# Altium integrated library TI_Logic_Gate.IntLib: 2017 symbols (part 20 of 56)
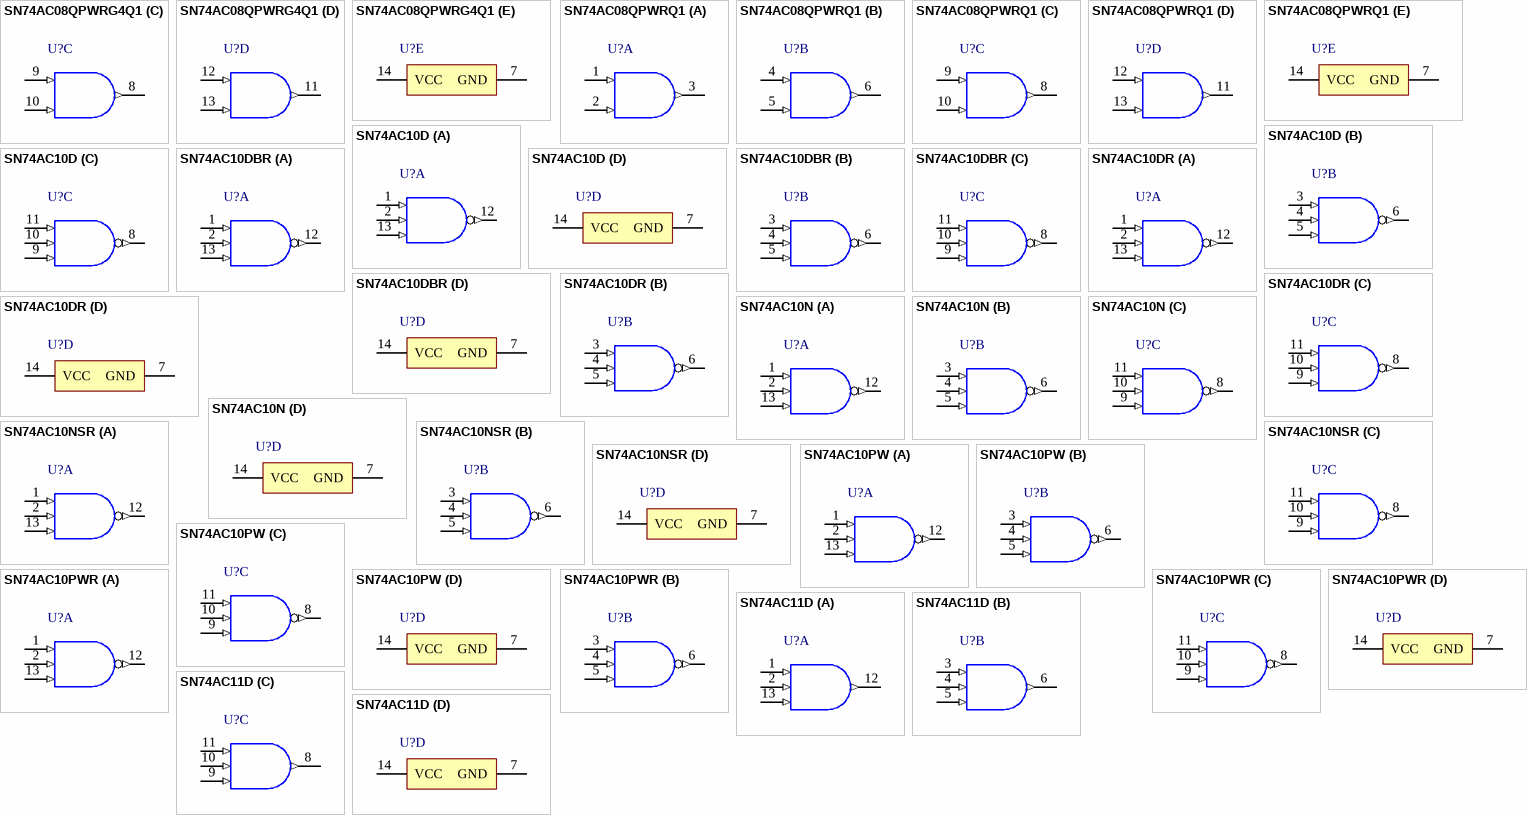
[diagram p244: symbols SN74AC08QPWRG4Q1 to SN74AC11D]

## SN74AC08QPWRQ1
designator U?
Automotive Catalog Quadruple 2-Input Positive-AND Gates, PW0014A, LARGE T&R; Generic Part Number: SN74AC08-Q1; Manufacturer: Texas Instruments; PartNumber: SN74AC08QPWRQ1; VCC(Min)(V): 2; VCC(Max)(V): 6; Output Type: CMOS; ICC @ Nom Voltage(Max)(mA): 0.02; Bits(#): 4; F @ Nom Voltage(Max)(Mhz): 100; Technology Family: AC; Voltage(Nom)(V): 3.3,5; Schmitt Trigger: No; Output Drive (IOL/IOH)(Max)(mA): -24/24; tpd @ Nom Voltage(Max)(ns): 10,8.5; DatasheetVersion: SCAS789A; PackageReference: PW0014A; Supplier 1: Mouser; Supplier Part Number 1: 595-SN74AC08QPWRQ1; Supplier 2: Digi-Key; Supplier Part Number 2: 296-38214-2-ND; Supplier 3: Digi-Key; Supplier Part Number 3: 296-38214-1-ND; Supplier 4: Digi-Key; Supplier Part Number 4: 296-38214-6-ND; Input Type: CMOS; Operating Temperature Range(C): -40 to 125; Rating: Automotive; ComponentLink1Description: Manufacturer URL; ComponentLink1URL: http://www.ti.com/; ComponentLink2Description: Datasheet; ComponentLink2URL: http://www.ti.com/lit/ds/symlink/sn74ac08-q1.pdf
footprint PW0014A_N (SOP, 14-Leads, Body 5.1x4.5mm, Pitch 0.65mm, IPC Medium Density)
footprint PW0014A_M (SOP, 14-Leads, Body 5.1x4.5mm, Pitch 0.65mm, IPC Low Density)
footprint PW0014A_L (SOP, 14-Leads, Body 5.1x4.5mm, Pitch 0.65mm, IPC High Density)
part A pins: 1 1A (in), 2 1B (in), 3 1Y (out)
part B pins: 4 2A (in), 5 2B (in), 6 2Y (out)
part C pins: 8 3Y (out), 9 3A (in), 10 3B (in)
part D pins: 11 4Y (out), 12 4A (in), 13 4B (in)
part E pins: 7 GND (power), 14 VCC (power)

## SN74AC10D
designator U?
Triple 3-Input Positive-NAND Gates, D0014A, TUBE; Generic Part Number: SN74AC10; Manufacturer: Texas Instruments; PartNumber: SN74AC10D; VCC(Min)(V): 2; VCC(Max)(V): 6; Output Type: CMOS; ICC @ Nom Voltage(Max)(mA): 0.02; Bits(#): 3; F @ Nom Voltage(Max)(Mhz): 100; Rating: Catalog; Technology Family: AC; Voltage(Nom)(V): 3.3,5; Schmitt Trigger: No; Output Drive (IOL/IOH)(Max)(mA): 24/-24; tpd @ Nom Voltage(Max)(ns): 10.5,8; DatasheetVersion: SCAS529D; PackageReference: D0014A; Supplier 1: Mouser; Supplier Part Number 1: 595-SN74AC10D; Supplier 2: Digi-Key; Supplier Part Number 2: 296-4294-5-ND; Input Type: CMOS; Operating Temperature Range(C): -40 to 85; Code_JEDEC: MS-012; ComponentLink1Description: Manufacturer URL; ComponentLink1URL: http://www.ti.com/; ComponentLink2Description: Datasheet; ComponentLink2URL: http://www.ti.com/lit/ds/symlink/sn74ac10.pdf; ComponentLink3Description: Package Specification; ComponentLink3URL: http://www.ti.com/lit/ml/mpds177g/mpds177g.pdf
footprint D0014A_N (SOIC, 14-Leads, Body 8.75x4mm, Pitch 1.27mm, IPC Medium Density)
footprint D0014A_M (SOIC, 14-Leads, Body 8.75x4mm, Pitch 1.27mm, IPC Low Density)
footprint D0014A_L (SOIC, 14-Leads, Body 8.75x4mm, Pitch 1.27mm, IPC High Density)
part A pins: 1 1A (in), 2 1B (in), 12 1Y (out), 13 1C (in)
part B pins: 3 2A (in), 4 2B (in), 5 2C (in), 6 2Y (out)
part C pins: 8 3Y (out), 9 3C (in), 10 3B (in), 11 3A (in)
part D pins: 7 GND (power), 14 VCC (power)

## SN74AC10DBR
designator U?
Triple 3-Input Positive-NAND Gates, DB0014A, LARGE T&R; Generic Part Number: SN74AC10; Manufacturer: Texas Instruments; PartNumber: SN74AC10DBR; VCC(Min)(V): 2; VCC(Max)(V): 6; Output Type: CMOS; ICC @ Nom Voltage(Max)(mA): 0.02; Bits(#): 3; F @ Nom Voltage(Max)(Mhz): 100; Rating: Catalog; Technology Family: AC; Voltage(Nom)(V): 3.3,5; Schmitt Trigger: No; Output Drive (IOL/IOH)(Max)(mA): 24/-24; tpd @ Nom Voltage(Max)(ns): 10.5,8; DatasheetVersion: SCAS529D; PackageReference: DB0014A; Supplier 1: Mouser; Supplier Part Number 1: 595-SN74AC10DBR; Supplier 2: Digi-Key; Supplier Part Number 2: 296-4293-2-ND; Supplier 3: Digi-Key; Supplier Part Number 3: 296-4293-1-ND; Supplier 4: Digi-Key; Supplier Part Number 4: 296-4293-6-ND; Input Type: CMOS; Operating Temperature Range(C): -40 to 85; Code_JEDEC: MO-150; ComponentLink1Description: Manufacturer URL; ComponentLink1URL: http://www.ti.com/; ComponentLink2Description: Datasheet; ComponentLink2URL: http://www.ti.com/lit/ds/symlink/sn74ac10.pdf; ComponentLink3Description: Package Specification; ComponentLink3URL: http://www.ti.com/lit/ml/msso002e/msso002e.pdf
footprint DB0014A_N (SOP, 14-Leads, Body 5.6x6.5mm, Pitch 0.65mm, IPC Medium Density)
footprint DB0014A_M (SOP, 14-Leads, Body 5.6x6.5mm, Pitch 0.65mm, IPC Low Density)
footprint DB0014A_L (SOP, 14-Leads, Body 5.6x6.5mm, Pitch 0.65mm, IPC High Density)
part A pins: 1 1A (in), 2 1B (in), 12 1Y (out), 13 1C (in)
part B pins: 3 2A (in), 4 2B (in), 5 2C (in), 6 2Y (out)
part C pins: 8 3Y (out), 9 3C (in), 10 3B (in), 11 3A (in)
part D pins: 7 GND (power), 14 VCC (power)

## SN74AC10DR
designator U?
Triple 3-Input Positive-NAND Gates, D0014A, LARGE T&R; Generic Part Number: SN74AC10; Manufacturer: Texas Instruments; PartNumber: SN74AC10DR; VCC(Min)(V): 2; VCC(Max)(V): 6; Output Type: CMOS; ICC @ Nom Voltage(Max)(mA): 0.02; Bits(#): 3; F @ Nom Voltage(Max)(Mhz): 100; Rating: Catalog; Technology Family: AC; Voltage(Nom)(V): 3.3,5; Schmitt Trigger: No; Output Drive (IOL/IOH)(Max)(mA): 24/-24; tpd @ Nom Voltage(Max)(ns): 10.5,8; DatasheetVersion: SCAS529D; PackageReference: D0014A; Supplier 1: Mouser; Supplier Part Number 1: 595-SN74AC10DR; Supplier 2: Digi-Key; Supplier Part Number 2: 296-4294-2-ND; Supplier 3: Digi-Key; Supplier Part Number 3: 296-4294-1-ND; Supplier 4: Digi-Key; Supplier Part Number 4: 296-4294-6-ND; Input Type: CMOS; Operating Temperature Range(C): -40 to 85; Code_JEDEC: MS-012; ComponentLink1Description: Manufacturer URL; ComponentLink1URL: http://www.ti.com/; ComponentLink2Description: Datasheet; ComponentLink2URL: http://www.ti.com/lit/ds/symlink/sn74ac10.pdf; ComponentLink3Description: Package Specification; ComponentLink3URL: http://www.ti.com/lit/ml/mpds177g/mpds177g.pdf
footprint D0014A_N (SOIC, 14-Leads, Body 8.75x4mm, Pitch 1.27mm, IPC Medium Density)
footprint D0014A_M (SOIC, 14-Leads, Body 8.75x4mm, Pitch 1.27mm, IPC Low Density)
footprint D0014A_L (SOIC, 14-Leads, Body 8.75x4mm, Pitch 1.27mm, IPC High Density)
part A pins: 1 1A (in), 2 1B (in), 12 1Y (out), 13 1C (in)
part B pins: 3 2A (in), 4 2B (in), 5 2C (in), 6 2Y (out)
part C pins: 8 3Y (out), 9 3C (in), 10 3B (in), 11 3A (in)
part D pins: 7 GND (power), 14 VCC (power)

## SN74AC10N
designator U?
Triple 3-Input Positive-NAND Gates, N0014A, TUBE; Generic Part Number: SN74AC10; Manufacturer: Texas Instruments; PartNumber: SN74AC10N; VCC(Min)(V): 2; VCC(Max)(V): 6; Output Type: CMOS; ICC @ Nom Voltage(Max)(mA): 0.02; Bits(#): 3; F @ Nom Voltage(Max)(Mhz): 100; Rating: Catalog; Technology Family: AC; Voltage(Nom)(V): 3.3,5; Schmitt Trigger: No; Output Drive (IOL/IOH)(Max)(mA): 24/-24; tpd @ Nom Voltage(Max)(ns): 10.5,8; DatasheetVersion: SCAS529D; PackageReference: N0014A; Supplier 1: Mouser; Supplier Part Number 1: 595-SN74AC10N; Supplier 2: Digi-Key; Supplier Part Number 2: 296-33639-5-ND; Input Type: CMOS; Operating Temperature Range(C): -40 to 85; Code_JEDEC: MS-001; ComponentLink1Description: Manufacturer URL; ComponentLink1URL: http://www.ti.com/; ComponentLink2Description: Datasheet; ComponentLink2URL: http://www.ti.com/lit/ds/symlink/sn74ac10.pdf; ComponentLink3Description: Package Specification; ComponentLink3URL: http://www.ti.com/lit/ml/mpdi002c/mpdi002c.pdf
footprint N0014A (DIP, 14-Leads, Body 19.7x6.6mm, Pitch 2.54mm)
part A pins: 1 1A (in), 2 1B (in), 12 1Y (out), 13 1C (in)
part B pins: 3 2A (in), 4 2B (in), 5 2C (in), 6 2Y (out)
part C pins: 8 3Y (out), 9 3C (in), 10 3B (in), 11 3A (in)
part D pins: 7 GND (power), 14 VCC (power)

## SN74AC10NSR
designator U?
Triple 3-Input Positive-NAND Gates, NS0014A, LARGE T&R; Generic Part Number: SN74AC10; Manufacturer: Texas Instruments; PartNumber: SN74AC10NSR; VCC(Min)(V): 2; VCC(Max)(V): 6; Output Type: CMOS; ICC @ Nom Voltage(Max)(mA): 0.02; Bits(#): 3; F @ Nom Voltage(Max)(Mhz): 100; Rating: Catalog; Technology Family: AC; Voltage(Nom)(V): 3.3,5; Schmitt Trigger: No; Output Drive (IOL/IOH)(Max)(mA): 24/-24; tpd @ Nom Voltage(Max)(ns): 10.5,8; DatasheetVersion: SCAS529D; PackageReference: NS0014A; Supplier 1: Mouser; Supplier Part Number 1: 595-SN74AC10NSR; Supplier 2: Digi-Key; Supplier Part Number 2: 296-28837-2-ND; Supplier 3: Digi-Key; Supplier Part Number 3: 296-28837-1-ND; Supplier 4: Digi-Key; Supplier Part Number 4: 296-28837-6-ND; Input Type: CMOS; Operating Temperature Range(C): -40 to 85; ComponentLink1Description: Manufacturer URL; ComponentLink1URL: http://www.ti.com/; ComponentLink2Description: Datasheet; ComponentLink2URL: http://www.ti.com/lit/ds/symlink/sn74ac10.pdf; ComponentLink3Description: Package Specification; ComponentLink3URL: http://www.ti.com/lit/ml/msop002a/msop002a.pdf
footprint NS0014A_N (SOIC,14-Leads,Body 10.5x5.6mm,Pitch 1.27mm,IPC Medium Density)
footprint NS0014A_M (SOIC,14-Leads,Body 10.5x5.6mm,Pitch 1.27mm,IPC Low Density)
footprint NS0014A_L (SOIC,14-Leads,Body 10.5x5.6mm,Pitch 0.4mm,IPC High Density)
part A pins: 1 1A (in), 2 1B (in), 12 1Y (out), 13 1C (in)
part B pins: 3 2A (in), 4 2B (in), 5 2C (in), 6 2Y (out)
part C pins: 8 3Y (out), 9 3C (in), 10 3B (in), 11 3A (in)
part D pins: 7 GND (power), 14 VCC (power)

## SN74AC10PW
designator U?
Triple 3-Input Positive-NAND Gates, PW0014A, TUBE; Generic Part Number: SN74AC10; Manufacturer: Texas Instruments; PartNumber: SN74AC10PW; VCC(Min)(V): 2; VCC(Max)(V): 6; Output Type: CMOS; ICC @ Nom Voltage(Max)(mA): 0.02; Bits(#): 3; F @ Nom Voltage(Max)(Mhz): 100; Rating: Catalog; Technology Family: AC; Voltage(Nom)(V): 3.3,5; Schmitt Trigger: No; Output Drive (IOL/IOH)(Max)(mA): 24/-24; tpd @ Nom Voltage(Max)(ns): 10.5,8; DatasheetVersion: SCAS529D; PackageReference: PW0014A; Supplier 1: Mouser; Supplier Part Number 1: 595-SN74AC10PW; Supplier 2: Digi-Key; Supplier Part Number 2: SN74AC10PW-ND; Input Type: CMOS; Operating Temperature Range(C): -40 to 85; Code_JEDEC: MO-153; ComponentLink1Description: Manufacturer URL; ComponentLink1URL: http://www.ti.com/; ComponentLink2Description: Datasheet; ComponentLink2URL: http://www.ti.com/lit/ds/symlink/sn74ac10.pdf; ComponentLink3Description: Package Specification; ComponentLink3URL: http://www.ti.com/lit/ml/mpds360/mpds360.pdf
footprint PW0014A_N (SOP, 14-Leads, Body 5.1x4.5mm, Pitch 0.65mm, IPC Medium Density)
footprint PW0014A_M (SOP, 14-Leads, Body 5.1x4.5mm, Pitch 0.65mm, IPC Low Density)
footprint PW0014A_L (SOP, 14-Leads, Body 5.1x4.5mm, Pitch 0.65mm, IPC High Density)
part A pins: 1 1A (in), 2 1B (in), 12 1Y (out), 13 1C (in)
part B pins: 3 2A (in), 4 2B (in), 5 2C (in), 6 2Y (out)
part C pins: 8 3Y (out), 9 3C (in), 10 3B (in), 11 3A (in)
part D pins: 7 GND (power), 14 VCC (power)

## SN74AC10PWR
designator U?
Triple 3-Input Positive-NAND Gates, PW0014A, LARGE T&R; Generic Part Number: SN74AC10; Manufacturer: Texas Instruments; PartNumber: SN74AC10PWR; VCC(Min)(V): 2; VCC(Max)(V): 6; Output Type: CMOS; ICC @ Nom Voltage(Max)(mA): 0.02; Bits(#): 3; F @ Nom Voltage(Max)(Mhz): 100; Rating: Catalog; Technology Family: AC; Voltage(Nom)(V): 3.3,5; Schmitt Trigger: No; Output Drive (IOL/IOH)(Max)(mA): 24/-24; tpd @ Nom Voltage(Max)(ns): 10.5,8; DatasheetVersion: SCAS529D; PackageReference: PW0014A; Supplier 1: Mouser; Supplier Part Number 1: 595-SN74AC10PWR; Supplier 2: Digi-Key; Supplier Part Number 2: 296-4295-2-ND; Supplier 3: Digi-Key; Supplier Part Number 3: 296-4295-1-ND; Supplier 4: Digi-Key; Supplier Part Number 4: 296-4295-6-ND; Input Type: CMOS; Operating Temperature Range(C): -40 to 85; Code_JEDEC: MO-153; ComponentLink1Description: Manufacturer URL; ComponentLink1URL: http://www.ti.com/; ComponentLink2Description: Datasheet; ComponentLink2URL: http://www.ti.com/lit/ds/symlink/sn74ac10.pdf; ComponentLink3Description: Package Specification; ComponentLink3URL: http://www.ti.com/lit/ml/mpds360/mpds360.pdf
footprint PW0014A_N (SOP, 14-Leads, Body 5.1x4.5mm, Pitch 0.65mm, IPC Medium Density)
footprint PW0014A_M (SOP, 14-Leads, Body 5.1x4.5mm, Pitch 0.65mm, IPC Low Density)
footprint PW0014A_L (SOP, 14-Leads, Body 5.1x4.5mm, Pitch 0.65mm, IPC High Density)
part A pins: 1 1A (in), 2 1B (in), 12 1Y (out), 13 1C (in)
part B pins: 3 2A (in), 4 2B (in), 5 2C (in), 6 2Y (out)
part C pins: 8 3Y (out), 9 3C (in), 10 3B (in), 11 3A (in)
part D pins: 7 GND (power), 14 VCC (power)

## SN74AC11D
designator U?
Triple 3-Input Positive-AND Gates, D0014A, TUBE; Generic Part Number: SN74AC11; Manufacturer: Texas Instruments; PartNumber: SN74AC11D; VCC(Min)(V): 2; VCC(Max)(V): 6; Output Type: CMOS; ICC @ Nom Voltage(Max)(mA): 0.02; Bits(#): 3; F @ Nom Voltage(Max)(Mhz): 100; Rating: Catalog; Technology Family: AC; Voltage(Nom)(V): 3.3,5; Schmitt Trigger: No; Output Drive (IOL/IOH)(Max)(mA): -24/24; tpd @ Nom Voltage(Max)(ns): 10,8.5; DatasheetVersion: SCAS532D; PackageReference: D0014A; Supplier 1: Mouser; Supplier Part Number 1: 595-SN74AC11D; Supplier 2: Digi-Key; Supplier Part Number 2: 296-4297-5-ND; Input Type: CMOS; Operating Temperature Range(C): -40 to 85; ComponentLink1Description: Manufacturer URL; ComponentLink1URL: http://www.ti.com/; ComponentLink2Description: Datasheet; ComponentLink2URL: http://www.ti.com/lit/ds/symlink/sn74ac11.pdf
footprint D0014A_N (SOIC, 14-Leads, Body 8.75x4mm, Pitch 1.27mm, IPC Medium Density)
footprint D0014A_M (SOIC, 14-Leads, Body 8.75x4mm, Pitch 1.27mm, IPC Low Density)
footprint D0014A_L (SOIC, 14-Leads, Body 8.75x4mm, Pitch 1.27mm, IPC High Density)
part A pins: 1 1A (in), 2 1B (in), 12 1Y (out), 13 1C (in)
part B pins: 3 2A (in), 4 2B (in), 5 2C (in), 6 2Y (out)
part C pins: 8 3Y (out), 9 3C (in), 10 3B (in), 11 3A (in)
part D pins: 7 GND (power), 14 VCC (power)

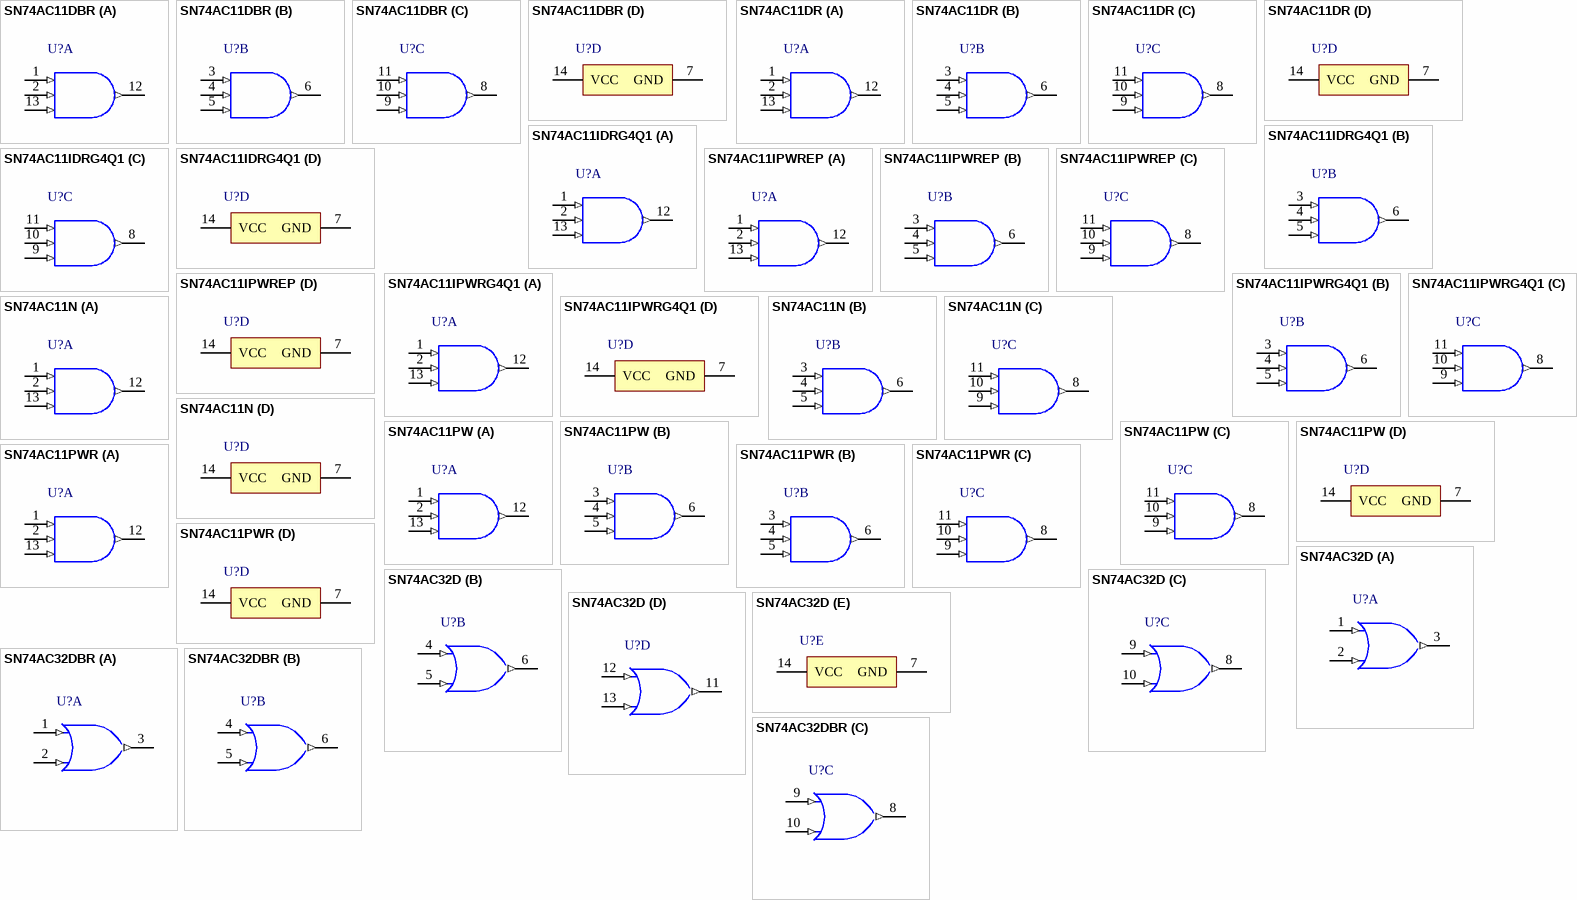
[diagram p80: symbols SN74AC11DBR to SN74AC32DBR]

## SN74AC11DBR
designator U?
Triple 3-Input Positive-AND Gates, DB0014A, LARGE T&R; Generic Part Number: SN74AC11; Manufacturer: Texas Instruments; PartNumber: SN74AC11DBR; VCC(Min)(V): 2; VCC(Max)(V): 6; Output Type: CMOS; ICC @ Nom Voltage(Max)(mA): 0.02; Bits(#): 3; F @ Nom Voltage(Max)(Mhz): 100; Rating: Catalog; Technology Family: AC; Voltage(Nom)(V): 3.3,5; Schmitt Trigger: No; Output Drive (IOL/IOH)(Max)(mA): -24/24; tpd @ Nom Voltage(Max)(ns): 10,8.5; DatasheetVersion: SCAS532D; PackageReference: DB0014A; Supplier 1: Mouser; Supplier Part Number 1: 595-SN74AC11DBR; Supplier 2: Digi-Key; Supplier Part Number 2: 296-4296-2-ND; Supplier 3: Digi-Key; Supplier Part Number 3: 296-4296-1-ND; Supplier 4: Digi-Key; Supplier Part Number 4: 296-4296-6-ND; Input Type: CMOS; Operating Temperature Range(C): -40 to 85; ComponentLink1Description: Manufacturer URL; ComponentLink1URL: http://www.ti.com/; ComponentLink2Description: Datasheet; ComponentLink2URL: http://www.ti.com/lit/ds/symlink/sn74ac11.pdf
footprint DB0014A_N (SOP, 14-Leads, Body 5.6x6.5mm, Pitch 0.65mm, IPC Medium Density)
footprint DB0014A_M (SOP, 14-Leads, Body 5.6x6.5mm, Pitch 0.65mm, IPC Low Density)
footprint DB0014A_L (SOP, 14-Leads, Body 5.6x6.5mm, Pitch 0.65mm, IPC High Density)
part A pins: 1 1A (in), 2 1B (in), 12 1Y (out), 13 1C (in)
part B pins: 3 2A (in), 4 2B (in), 5 2C (in), 6 2Y (out)
part C pins: 8 3Y (out), 9 3C (in), 10 3B (in), 11 3A (in)
part D pins: 7 GND (power), 14 VCC (power)

## SN74AC11DR
designator U?
Triple 3-Input Positive-AND Gates, D0014A, LARGE T&R; Generic Part Number: SN74AC11; Manufacturer: Texas Instruments; PartNumber: SN74AC11DR; VCC(Min)(V): 2; VCC(Max)(V): 6; Output Type: CMOS; ICC @ Nom Voltage(Max)(mA): 0.02; Bits(#): 3; F @ Nom Voltage(Max)(Mhz): 100; Rating: Catalog; Technology Family: AC; Voltage(Nom)(V): 3.3,5; Schmitt Trigger: No; Output Drive (IOL/IOH)(Max)(mA): -24/24; tpd @ Nom Voltage(Max)(ns): 10,8.5; DatasheetVersion: SCAS532D; PackageReference: D0014A; Supplier 1: Mouser; Supplier Part Number 1: 595-SN74AC11DR; Supplier 2: Digi-Key; Supplier Part Number 2: 296-4297-2-ND; Supplier 3: Digi-Key; Supplier Part Number 3: 296-4297-1-ND; Supplier 4: Digi-Key; Supplier Part Number 4: 296-4297-6-ND; Input Type: CMOS; Operating Temperature Range(C): -40 to 85; ComponentLink1Description: Manufacturer URL; ComponentLink1URL: http://www.ti.com/; ComponentLink2Description: Datasheet; ComponentLink2URL: http://www.ti.com/lit/ds/symlink/sn74ac11.pdf
footprint D0014A_N (SOIC, 14-Leads, Body 8.75x4mm, Pitch 1.27mm, IPC Medium Density)
footprint D0014A_M (SOIC, 14-Leads, Body 8.75x4mm, Pitch 1.27mm, IPC Low Density)
footprint D0014A_L (SOIC, 14-Leads, Body 8.75x4mm, Pitch 1.27mm, IPC High Density)
part A pins: 1 1A (in), 2 1B (in), 12 1Y (out), 13 1C (in)
part B pins: 3 2A (in), 4 2B (in), 5 2C (in), 6 2Y (out)
part C pins: 8 3Y (out), 9 3C (in), 10 3B (in), 11 3A (in)
part D pins: 7 GND (power), 14 VCC (power)

## SN74AC11IDRG4Q1
designator U?
Automotive Catalog Triple 3-Input Positive-AND Gates, D0014A, LARGE T&R; Generic Part Number: SN74AC11-Q1; Manufacturer: Texas Instruments; PartNumber: SN74AC11IDRG4Q1; VCC(Min)(V): 2; VCC(Max)(V): 6; Output Type: CMOS; ICC @ Nom Voltage(Max)(mA): 0.02; Bits(#): 3; F @ Nom Voltage(Max)(Mhz): 100; Technology Family: AC; Voltage(Nom)(V): 3.3,5; Schmitt Trigger: No; Output Drive (IOL/IOH)(Max)(mA): -24/24; tpd @ Nom Voltage(Max)(ns): 10,8.5; DatasheetVersion: SCLS523A; PackageReference: D0014A; Supplier 1: Mouser; Supplier Part Number 1: 595-SN74AC11IDRG4Q1; Supplier 2: Digi-Key; Supplier Part Number 2: 296-31724-2-ND; Supplier 3: Digi-Key; Supplier Part Number 3: 296-31724-1-ND; Supplier 4: Digi-Key; Supplier Part Number 4: 296-31724-6-ND; Input Type: CMOS; Operating Temperature Range(C): -40 to 85; Rating: Automotive; ComponentLink1Description: Manufacturer URL; ComponentLink1URL: http://www.ti.com/; ComponentLink2Description: Datasheet; ComponentLink2URL: http://www.ti.com/lit/ds/symlink/sn74ac11-q1.pdf
footprint D0014A_N (SOIC, 14-Leads, Body 8.75x4mm, Pitch 1.27mm, IPC Medium Density)
footprint D0014A_M (SOIC, 14-Leads, Body 8.75x4mm, Pitch 1.27mm, IPC Low Density)
footprint D0014A_L (SOIC, 14-Leads, Body 8.75x4mm, Pitch 1.27mm, IPC High Density)
part A pins: 1 1A (in), 2 1B (in), 12 1Y (out), 13 1C (in)
part B pins: 3 2A (in), 4 2B (in), 5 2C (in), 6 2Y (out)
part C pins: 8 3Y (out), 9 3C (in), 10 3B (in), 11 3A (in)
part D pins: 7 GND (power), 14 VCC (power)

## SN74AC11IPWREP
designator U?
Enhanced Product Triple 3-Input Positive-And Gates, PW0014A, LARGE T&R; Generic Part Number: SN74AC11-EP; Manufacturer: Texas Instruments; PartNumber: SN74AC11IPWREP; VCC(Min)(V): 2; VCC(Max)(V): 6; Output Type: CMOS; ICC @ Nom Voltage(Max)(mA): 0.02; Bits(#): 3; F @ Nom Voltage(Max)(Mhz): 100; Rating: HiRel Enhanced Product; Technology Family: AC; Voltage(Nom)(V): 3.3,5; Schmitt Trigger: No; Output Drive (IOL/IOH)(Max)(mA): -24/24; tpd @ Nom Voltage(Max)(ns): 10,8.5; DatasheetVersion: SCLS557; PackageReference: PW0014A; Supplier 1: Mouser; Supplier Part Number 1: 595-SN74AC11IPWREP; Supplier 2: Digi-Key; Supplier Part Number 2: 296-22249-2-ND; Supplier 3: Digi-Key; Supplier Part Number 3: 296-22249-1-ND; Supplier 4: Digi-Key; Supplier Part Number 4: 296-22249-6-ND; Input Type: CMOS; Operating Temperature Range(C): -40 to 85; ComponentLink1Description: Manufacturer URL; ComponentLink1URL: http://www.ti.com/; ComponentLink2Description: Datasheet; ComponentLink2URL: http://www.ti.com/lit/ds/symlink/sn74ac11-ep.pdf
footprint PW0014A_N (SOP, 14-Leads, Body 5.1x4.5mm, Pitch 0.65mm, IPC Medium Density)
footprint PW0014A_M (SOP, 14-Leads, Body 5.1x4.5mm, Pitch 0.65mm, IPC Low Density)
footprint PW0014A_L (SOP, 14-Leads, Body 5.1x4.5mm, Pitch 0.65mm, IPC High Density)
part A pins: 1 1A (in), 2 1B (in), 12 1Y (out), 13 1C (in)
part B pins: 3 2A (in), 4 2B (in), 5 2C (in), 6 2Y (out)
part C pins: 8 3Y (out), 9 3C (in), 10 3B (in), 11 3A (in)
part D pins: 7 GND (power), 14 VCC (power)

## SN74AC11IPWRG4Q1
designator U?
Automotive Catalog Triple 3-Input Positive-AND Gates, PW0014A, LARGE T&R; Generic Part Number: SN74AC11-Q1; Manufacturer: Texas Instruments; PartNumber: SN74AC11IPWRG4Q1; VCC(Min)(V): 2; VCC(Max)(V): 6; Output Type: CMOS; ICC @ Nom Voltage(Max)(mA): 0.02; Bits(#): 3; F @ Nom Voltage(Max)(Mhz): 100; Technology Family: AC; Voltage(Nom)(V): 3.3,5; Schmitt Trigger: No; Output Drive (IOL/IOH)(Max)(mA): -24/24; tpd @ Nom Voltage(Max)(ns): 10,8.5; DatasheetVersion: SCLS523A; PackageReference: PW0014A; Supplier 1: Mouser; Supplier Part Number 1: 595-SN74AC11IPWRG4Q1; Supplier 2: Digi-Key; Supplier Part Number 2: 296-27734-2-ND; Supplier 3: Digi-Key; Supplier Part Number 3: 296-27734-1-ND; Supplier 4: Digi-Key; Supplier Part Number 4: 296-27734-6-ND; Input Type: CMOS; Operating Temperature Range(C): -40 to 85; Rating: Automotive; ComponentLink1Description: Manufacturer URL; ComponentLink1URL: http://www.ti.com/; ComponentLink2Description: Datasheet; ComponentLink2URL: http://www.ti.com/lit/ds/symlink/sn74ac11-q1.pdf
footprint PW0014A_N (SOP, 14-Leads, Body 5.1x4.5mm, Pitch 0.65mm, IPC Medium Density)
footprint PW0014A_M (SOP, 14-Leads, Body 5.1x4.5mm, Pitch 0.65mm, IPC Low Density)
footprint PW0014A_L (SOP, 14-Leads, Body 5.1x4.5mm, Pitch 0.65mm, IPC High Density)
part A pins: 1 1A (in), 2 1B (in), 12 1Y (out), 13 1C (in)
part B pins: 3 2A (in), 4 2B (in), 5 2C (in), 6 2Y (out)
part C pins: 8 3Y (out), 9 3C (in), 10 3B (in), 11 3A (in)
part D pins: 7 GND (power), 14 VCC (power)

## SN74AC11N
designator U?
Triple 3-Input Positive-AND Gates, N0014A, TUBE; Generic Part Number: SN74AC11; Manufacturer: Texas Instruments; PartNumber: SN74AC11N; VCC(Min)(V): 2; VCC(Max)(V): 6; Output Type: CMOS; ICC @ Nom Voltage(Max)(mA): 0.02; Bits(#): 3; F @ Nom Voltage(Max)(Mhz): 100; Rating: Catalog; Technology Family: AC; Voltage(Nom)(V): 3.3,5; Schmitt Trigger: No; Output Drive (IOL/IOH)(Max)(mA): -24/24; tpd @ Nom Voltage(Max)(ns): 10,8.5; DatasheetVersion: SCAS532D; PackageReference: N0014A; Supplier 1: Mouser; Supplier Part Number 1: 595-SN74AC11N; Supplier 2: Digi-Key; Supplier Part Number 2: 296-33640-5-ND; Input Type: CMOS; Operating Temperature Range(C): -40 to 85; ComponentLink1Description: Manufacturer URL; ComponentLink1URL: http://www.ti.com/; ComponentLink2Description: Datasheet; ComponentLink2URL: http://www.ti.com/lit/ds/symlink/sn74ac11.pdf
footprint N0014A (DIP, 14-Leads, Body 19.7x6.6mm, Pitch 2.54mm)
part A pins: 1 1A (in), 2 1B (in), 12 1Y (out), 13 1C (in)
part B pins: 3 2A (in), 4 2B (in), 5 2C (in), 6 2Y (out)
part C pins: 8 3Y (out), 9 3C (in), 10 3B (in), 11 3A (in)
part D pins: 7 GND (power), 14 VCC (power)

## SN74AC11PW
designator U?
Triple 3-Input Positive-AND Gates, PW0014A, TUBE; Generic Part Number: SN74AC11; Manufacturer: Texas Instruments; PartNumber: SN74AC11PW; VCC(Min)(V): 2; VCC(Max)(V): 6; Output Type: CMOS; ICC @ Nom Voltage(Max)(mA): 0.02; Bits(#): 3; F @ Nom Voltage(Max)(Mhz): 100; Rating: Catalog; Technology Family: AC; Voltage(Nom)(V): 3.3,5; Schmitt Trigger: No; Output Drive (IOL/IOH)(Max)(mA): -24/24; tpd @ Nom Voltage(Max)(ns): 10,8.5; DatasheetVersion: SCAS532D; PackageReference: PW0014A; Supplier 1: Mouser; Supplier Part Number 1: 595-SN74AC11PW; Supplier 2: Digi-Key; Supplier Part Number 2: 296-41614-5-ND; Input Type: CMOS; Operating Temperature Range(C): -40 to 85; ComponentLink1Description: Manufacturer URL; ComponentLink1URL: http://www.ti.com/; ComponentLink2Description: Datasheet; ComponentLink2URL: http://www.ti.com/lit/ds/symlink/sn74ac11.pdf
footprint PW0014A_N (SOP, 14-Leads, Body 5.1x4.5mm, Pitch 0.65mm, IPC Medium Density)
footprint PW0014A_M (SOP, 14-Leads, Body 5.1x4.5mm, Pitch 0.65mm, IPC Low Density)
footprint PW0014A_L (SOP, 14-Leads, Body 5.1x4.5mm, Pitch 0.65mm, IPC High Density)
part A pins: 1 1A (in), 2 1B (in), 12 1Y (out), 13 1C (in)
part B pins: 3 2A (in), 4 2B (in), 5 2C (in), 6 2Y (out)
part C pins: 8 3Y (out), 9 3C (in), 10 3B (in), 11 3A (in)
part D pins: 7 GND (power), 14 VCC (power)

## SN74AC11PWR
designator U?
Triple 3-Input Positive-AND Gates, PW0014A, LARGE T&R; Generic Part Number: SN74AC11; Manufacturer: Texas Instruments; PartNumber: SN74AC11PWR; VCC(Min)(V): 2; VCC(Max)(V): 6; Output Type: CMOS; ICC @ Nom Voltage(Max)(mA): 0.02; Bits(#): 3; F @ Nom Voltage(Max)(Mhz): 100; Rating: Catalog; Technology Family: AC; Voltage(Nom)(V): 3.3,5; Schmitt Trigger: No; Output Drive (IOL/IOH)(Max)(mA): -24/24; tpd @ Nom Voltage(Max)(ns): 10,8.5; DatasheetVersion: SCAS532D; PackageReference: PW0014A; Supplier 1: Mouser; Supplier Part Number 1: 595-SN74AC11PWR; Supplier 2: Digi-Key; Supplier Part Number 2: 296-4298-2-ND; Supplier 3: Digi-Key; Supplier Part Number 3: 296-4298-1-ND; Supplier 4: Digi-Key; Supplier Part Number 4: 296-4298-6-ND; Input Type: CMOS; Operating Temperature Range(C): -40 to 85; ComponentLink1Description: Manufacturer URL; ComponentLink1URL: http://www.ti.com/; ComponentLink2Description: Datasheet; ComponentLink2URL: http://www.ti.com/lit/ds/symlink/sn74ac11.pdf
footprint PW0014A_N (SOP, 14-Leads, Body 5.1x4.5mm, Pitch 0.65mm, IPC Medium Density)
footprint PW0014A_M (SOP, 14-Leads, Body 5.1x4.5mm, Pitch 0.65mm, IPC Low Density)
footprint PW0014A_L (SOP, 14-Leads, Body 5.1x4.5mm, Pitch 0.65mm, IPC High Density)
part A pins: 1 1A (in), 2 1B (in), 12 1Y (out), 13 1C (in)
part B pins: 3 2A (in), 4 2B (in), 5 2C (in), 6 2Y (out)
part C pins: 8 3Y (out), 9 3C (in), 10 3B (in), 11 3A (in)
part D pins: 7 GND (power), 14 VCC (power)

## SN74AC32D
designator U?
Quadruple 2-Input Positive-OR Gates, D0014A, TUBE; Generic Part Number: SN74AC32; Manufacturer: Texas Instruments; PartNumber: SN74AC32D; VCC(Min)(V): 2; VCC(Max)(V): 6; Output Type: CMOS; ICC @ Nom Voltage(Max)(mA): 0.02; Bits(#): 4; F @ Nom Voltage(Max)(Mhz): 100; Rating: Catalog; Voltage(Nom)(V): 3.3,5; Output Drive (IOL/IOH)(Max)(mA): 24/-24; tpd @ Nom Voltage(Max)(ns): 10,8.5; DatasheetVersion: SCAS528D; PackageReference: D0014A; Input Type: CMOS; Operating Temperature Range(C): -40 to 85; Code_JEDEC: MS-012; ComponentLink1Description: Manufacturer URL; ComponentLink1URL: http://www.ti.com/; ComponentLink2Description: Datasheet; ComponentLink2URL: http://www.ti.com/lit/ds/symlink/sn74ac32.pdf; ComponentLink3Description: Package Specification; ComponentLink3URL: http://www.ti.com/lit/ml/mpds177g/mpds177g.pdf
footprint D0014A_N (SOIC, 14-Leads, Body 8.75x4mm, Pitch 1.27mm, IPC Medium Density)
footprint D0014A_M (SOIC, 14-Leads, Body 8.75x4mm, Pitch 1.27mm, IPC Low Density)
footprint D0014A_L (SOIC, 14-Leads, Body 8.75x4mm, Pitch 1.27mm, IPC High Density)
part A pins: 1 1A (in), 2 1B (in), 3 1Y (out)
part B pins: 4 2A (in), 5 2B (in), 6 2Y (out)
part C pins: 8 3Y (out), 9 3A (in), 10 3B (in)
part D pins: 11 4Y (out), 12 4A (in), 13 4B (in)
part E pins: 7 GND (power), 14 VCC (power)

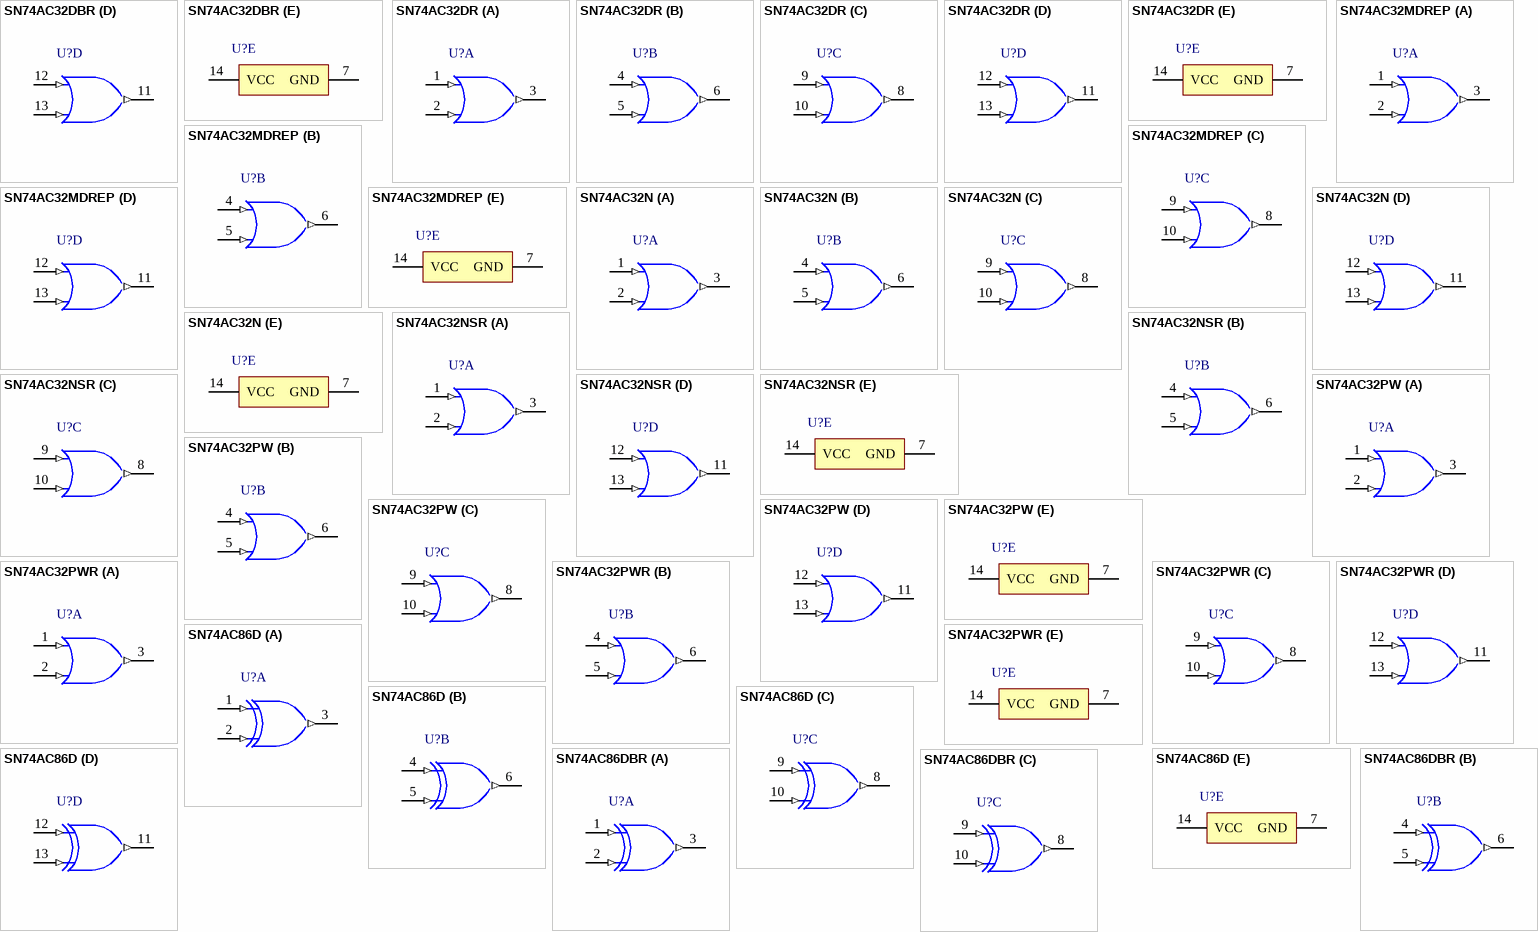
[diagram p81: symbols SN74AC32DBR to SN74AC86DBR]

## SN74AC32DBR
designator U?
Quadruple 2-Input Positive-OR Gates, DB0014A, LARGE T&R; Generic Part Number: SN74AC32; Manufacturer: Texas Instruments; PartNumber: SN74AC32DBR; VCC(Min)(V): 2; VCC(Max)(V): 6; Output Type: CMOS; ICC @ Nom Voltage(Max)(mA): 0.02; Bits(#): 4; F @ Nom Voltage(Max)(Mhz): 100; Rating: Catalog; Voltage(Nom)(V): 3.3,5; Output Drive (IOL/IOH)(Max)(mA): 24/-24; tpd @ Nom Voltage(Max)(ns): 10,8.5; DatasheetVersion: SCAS528D; PackageReference: DB0014A; Input Type: CMOS; Operating Temperature Range(C): -40 to 85; Code_JEDEC: MO-150; ComponentLink1Description: Manufacturer URL; ComponentLink1URL: http://www.ti.com/; ComponentLink2Description: Datasheet; ComponentLink2URL: http://www.ti.com/lit/ds/symlink/sn74ac32.pdf; ComponentLink3Description: Package Specification; ComponentLink3URL: http://www.ti.com/lit/ml/msso002e/msso002e.pdf
footprint DB0014A_N (SOP, 14-Leads, Body 5.6x6.5mm, Pitch 0.65mm, IPC Medium Density)
footprint DB0014A_M (SOP, 14-Leads, Body 5.6x6.5mm, Pitch 0.65mm, IPC Low Density)
footprint DB0014A_L (SOP, 14-Leads, Body 5.6x6.5mm, Pitch 0.65mm, IPC High Density)
part A pins: 1 1A (in), 2 1B (in), 3 1Y (out)
part B pins: 4 2A (in), 5 2B (in), 6 2Y (out)
part C pins: 8 3Y (out), 9 3A (in), 10 3B (in)
part D pins: 11 4Y (out), 12 4A (in), 13 4B (in)
part E pins: 7 GND (power), 14 VCC (power)

## SN74AC32DR
designator U?
Quadruple 2-Input Positive-OR Gates, D0014A, LARGE T&R; Generic Part Number: SN74AC32; Manufacturer: Texas Instruments; PartNumber: SN74AC32DR; VCC(Min)(V): 2; VCC(Max)(V): 6; Output Type: CMOS; ICC @ Nom Voltage(Max)(mA): 0.02; Bits(#): 4; F @ Nom Voltage(Max)(Mhz): 100; Rating: Catalog; Voltage(Nom)(V): 3.3,5; Output Drive (IOL/IOH)(Max)(mA): 24/-24; tpd @ Nom Voltage(Max)(ns): 10,8.5; DatasheetVersion: SCAS528D; PackageReference: D0014A; Input Type: CMOS; Operating Temperature Range(C): -40 to 85; Code_JEDEC: MS-012; ComponentLink1Description: Manufacturer URL; ComponentLink1URL: http://www.ti.com/; ComponentLink2Description: Datasheet; ComponentLink2URL: http://www.ti.com/lit/ds/symlink/sn74ac32.pdf; ComponentLink3Description: Package Specification; ComponentLink3URL: http://www.ti.com/lit/ml/mpds177g/mpds177g.pdf
footprint D0014A_N (SOIC, 14-Leads, Body 8.75x4mm, Pitch 1.27mm, IPC Medium Density)
footprint D0014A_M (SOIC, 14-Leads, Body 8.75x4mm, Pitch 1.27mm, IPC Low Density)
footprint D0014A_L (SOIC, 14-Leads, Body 8.75x4mm, Pitch 1.27mm, IPC High Density)
part A pins: 1 1A (in), 2 1B (in), 3 1Y (out)
part B pins: 4 2A (in), 5 2B (in), 6 2Y (out)
part C pins: 8 3Y (out), 9 3A (in), 10 3B (in)
part D pins: 11 4Y (out), 12 4A (in), 13 4B (in)
part E pins: 7 GND (power), 14 VCC (power)

## SN74AC32MDREP
designator U?
Enhanced Product Quadruple 2-Input Positive-Or Gates, D0014A, LARGE T&R; Generic Part Number: SN74AC32-EP; Manufacturer: Texas Instruments; PartNumber: SN74AC32MDREP; VCC(Min)(V): 2; VCC(Max)(V): 6; Output Type: CMOS; ICC @ Nom Voltage(Max)(mA): 0.04; Bits(#): 4; F @ Nom Voltage(Max)(Mhz): 100; Rating: HiRel Enhanced Product; Voltage(Nom)(V): 3.3,5; Output Drive (IOL/IOH)(Max)(mA): 24/-24; tpd @ Nom Voltage(Max)(ns): 12,9; DatasheetVersion: SCAS720; PackageReference: D0014A; Input Type: CMOS; Operating Temperature Range(C): -55 to 125; Code_JEDEC: MS-012; ComponentLink1Description: Manufacturer URL; ComponentLink1URL: http://www.ti.com/; ComponentLink2Description: Datasheet; ComponentLink2URL: http://www.ti.com/lit/ds/symlink/sn74ac32-ep.pdf; ComponentLink3Description: Package Specification; ComponentLink3URL: http://www.ti.com/lit/ml/mpds177g/mpds177g.pdf
footprint D0014A_N (SOIC, 14-Leads, Body 8.75x4mm, Pitch 1.27mm, IPC Medium Density)
footprint D0014A_M (SOIC, 14-Leads, Body 8.75x4mm, Pitch 1.27mm, IPC Low Density)
footprint D0014A_L (SOIC, 14-Leads, Body 8.75x4mm, Pitch 1.27mm, IPC High Density)
part A pins: 1 1A (in), 2 1B (in), 3 1Y (out)
part B pins: 4 2A (in), 5 2B (in), 6 2Y (out)
part C pins: 8 3Y (out), 9 3A (in), 10 3B (in)
part D pins: 11 4Y (out), 12 4A (in), 13 4B (in)
part E pins: 7 GND (power), 14 VCC (power)

## SN74AC32N
designator U?
Quadruple 2-Input Positive-OR Gates, N0014A, TUBE; Generic Part Number: SN74AC32; Manufacturer: Texas Instruments; PartNumber: SN74AC32N; VCC(Min)(V): 2; VCC(Max)(V): 6; Output Type: CMOS; ICC @ Nom Voltage(Max)(mA): 0.02; Bits(#): 4; F @ Nom Voltage(Max)(Mhz): 100; Rating: Catalog; Voltage(Nom)(V): 3.3,5; Output Drive (IOL/IOH)(Max)(mA): 24/-24; tpd @ Nom Voltage(Max)(ns): 10,8.5; DatasheetVersion: SCAS528D; PackageReference: N0014A; Input Type: CMOS; Operating Temperature Range(C): -40 to 85; Code_JEDEC: MS-001; ComponentLink1Description: Manufacturer URL; ComponentLink1URL: http://www.ti.com/; ComponentLink2Description: Datasheet; ComponentLink2URL: http://www.ti.com/lit/ds/symlink/sn74ac32.pdf; ComponentLink3Description: Package Specification; ComponentLink3URL: http://www.ti.com/lit/ml/mpdi002c/mpdi002c.pdf
footprint N0014A (DIP, 14-Leads, Body 19.7x6.6mm, Pitch 2.54mm)
part A pins: 1 1A (in), 2 1B (in), 3 1Y (out)
part B pins: 4 2A (in), 5 2B (in), 6 2Y (out)
part C pins: 8 3Y (out), 9 3A (in), 10 3B (in)
part D pins: 11 4Y (out), 12 4A (in), 13 4B (in)
part E pins: 7 GND (power), 14 VCC (power)

## SN74AC32NSR
designator U?
Quadruple 2-Input Positive-OR Gates, NS0014A, LARGE T&R; Generic Part Number: SN74AC32; Manufacturer: Texas Instruments; PartNumber: SN74AC32NSR; VCC(Min)(V): 2; VCC(Max)(V): 6; Output Type: CMOS; ICC @ Nom Voltage(Max)(mA): 0.02; Bits(#): 4; F @ Nom Voltage(Max)(Mhz): 100; Rating: Catalog; Voltage(Nom)(V): 3.3,5; Output Drive (IOL/IOH)(Max)(mA): 24/-24; tpd @ Nom Voltage(Max)(ns): 10,8.5; DatasheetVersion: SCAS528D; PackageReference: NS0014A; Input Type: CMOS; Operating Temperature Range(C): -40 to 85; ComponentLink1Description: Manufacturer URL; ComponentLink1URL: http://www.ti.com/; ComponentLink2Description: Datasheet; ComponentLink2URL: http://www.ti.com/lit/ds/symlink/sn74ac32.pdf; ComponentLink3Description: Package Specification; ComponentLink3URL: http://www.ti.com/lit/ml/msop002a/msop002a.pdf
footprint NS0014A_N (SOIC,14-Leads,Body 10.5x5.6mm,Pitch 1.27mm,IPC Medium Density)
footprint NS0014A_M (SOIC,14-Leads,Body 10.5x5.6mm,Pitch 1.27mm,IPC Low Density)
footprint NS0014A_L (SOIC,14-Leads,Body 10.5x5.6mm,Pitch 0.4mm,IPC High Density)
part A pins: 1 1A (in), 2 1B (in), 3 1Y (out)
part B pins: 4 2A (in), 5 2B (in), 6 2Y (out)
part C pins: 8 3Y (out), 9 3A (in), 10 3B (in)
part D pins: 11 4Y (out), 12 4A (in), 13 4B (in)
part E pins: 7 GND (power), 14 VCC (power)

## SN74AC32PW
designator U?
Quadruple 2-Input Positive-OR Gates, PW0014A, TUBE; Generic Part Number: SN74AC32; Manufacturer: Texas Instruments; PartNumber: SN74AC32PW; VCC(Min)(V): 2; VCC(Max)(V): 6; Output Type: CMOS; ICC @ Nom Voltage(Max)(mA): 0.02; Bits(#): 4; F @ Nom Voltage(Max)(Mhz): 100; Rating: Catalog; Voltage(Nom)(V): 3.3,5; Output Drive (IOL/IOH)(Max)(mA): 24/-24; tpd @ Nom Voltage(Max)(ns): 10,8.5; DatasheetVersion: SCAS528D; PackageReference: PW0014A; Input Type: CMOS; Operating Temperature Range(C): -40 to 85; Code_JEDEC: MO-153; ComponentLink1Description: Manufacturer URL; ComponentLink1URL: http://www.ti.com/; ComponentLink2Description: Datasheet; ComponentLink2URL: http://www.ti.com/lit/ds/symlink/sn74ac32.pdf; ComponentLink3Description: Package Specification; ComponentLink3URL: http://www.ti.com/lit/ml/mpds360/mpds360.pdf
footprint PW0014A_N (SOP, 14-Leads, Body 5.1x4.5mm, Pitch 0.65mm, IPC Medium Density)
footprint PW0014A_M (SOP, 14-Leads, Body 5.1x4.5mm, Pitch 0.65mm, IPC Low Density)
footprint PW0014A_L (SOP, 14-Leads, Body 5.1x4.5mm, Pitch 0.65mm, IPC High Density)
part A pins: 1 1A (in), 2 1B (in), 3 1Y (out)
part B pins: 4 2A (in), 5 2B (in), 6 2Y (out)
part C pins: 8 3Y (out), 9 3A (in), 10 3B (in)
part D pins: 11 4Y (out), 12 4A (in), 13 4B (in)
part E pins: 7 GND (power), 14 VCC (power)

## SN74AC32PWR
designator U?
Quadruple 2-Input Positive-OR Gates, PW0014A, LARGE T&R; Generic Part Number: SN74AC32; Manufacturer: Texas Instruments; PartNumber: SN74AC32PWR; VCC(Min)(V): 2; VCC(Max)(V): 6; Output Type: CMOS; ICC @ Nom Voltage(Max)(mA): 0.02; Bits(#): 4; F @ Nom Voltage(Max)(Mhz): 100; Rating: Catalog; Voltage(Nom)(V): 3.3,5; Output Drive (IOL/IOH)(Max)(mA): 24/-24; tpd @ Nom Voltage(Max)(ns): 10,8.5; DatasheetVersion: SCAS528D; PackageReference: PW0014A; Input Type: CMOS; Operating Temperature Range(C): -40 to 85; Code_JEDEC: MO-153; ComponentLink1Description: Manufacturer URL; ComponentLink1URL: http://www.ti.com/; ComponentLink2Description: Datasheet; ComponentLink2URL: http://www.ti.com/lit/ds/symlink/sn74ac32.pdf; ComponentLink3Description: Package Specification; ComponentLink3URL: http://www.ti.com/lit/ml/mpds360/mpds360.pdf
footprint PW0014A_N (SOP, 14-Leads, Body 5.1x4.5mm, Pitch 0.65mm, IPC Medium Density)
footprint PW0014A_M (SOP, 14-Leads, Body 5.1x4.5mm, Pitch 0.65mm, IPC Low Density)
footprint PW0014A_L (SOP, 14-Leads, Body 5.1x4.5mm, Pitch 0.65mm, IPC High Density)
part A pins: 1 1A (in), 2 1B (in), 3 1Y (out)
part B pins: 4 2A (in), 5 2B (in), 6 2Y (out)
part C pins: 8 3Y (out), 9 3A (in), 10 3B (in)
part D pins: 11 4Y (out), 12 4A (in), 13 4B (in)
part E pins: 7 GND (power), 14 VCC (power)

## SN74AC86D
designator U?
Quadruple 2-Input Exclusive-OR Gates, D0014A, TUBE; Generic Part Number: SN74AC86; Manufacturer: Texas Instruments; PartNumber: SN74AC86D; VCC(Min)(V): 2; VCC(Max)(V): 5.5; Output Type: CMOS; ICC @ Nom Voltage(Max)(mA): 0.02; Bits(#): 4; F @ Nom Voltage(Max)(Mhz): 100; Rating: Catalog; Technology Family: AC; Voltage(Nom)(V): 3.3,5; Schmitt Trigger: No; Output Drive (IOL/IOH)(Max)(mA): 24/-24; tpd @ Nom Voltage(Max)(ns): 12.5,9; DatasheetVersion: SCAS533C; PackageReference: D0014A; Supplier 1: Mouser; Supplier Part Number 1: 595-SN74AC86D; Supplier 2: Digi-Key; Supplier Part Number 2: 296-4343-5-ND; Input Type: CMOS; Operating Temperature Range(C): -40 to 85; ComponentLink1Description: Manufacturer URL; ComponentLink1URL: http://www.ti.com/; ComponentLink2Description: Datasheet; ComponentLink2URL: http://www.ti.com/lit/ds/symlink/sn74ac86.pdf
footprint D0014A_N (SOIC, 14-Leads, Body 8.75x4mm, Pitch 1.27mm, IPC Medium Density)
footprint D0014A_M (SOIC, 14-Leads, Body 8.75x4mm, Pitch 1.27mm, IPC Low Density)
footprint D0014A_L (SOIC, 14-Leads, Body 8.75x4mm, Pitch 1.27mm, IPC High Density)
part A pins: 1 1A (in), 2 1B (in), 3 1Y (out)
part B pins: 4 2A (in), 5 2B (in), 6 2Y (out)
part C pins: 8 3Y (out), 9 3A (in), 10 3B (in)
part D pins: 11 4Y (out), 12 4A (in), 13 4B (in)
part E pins: 7 GND (power), 14 VCC (power)

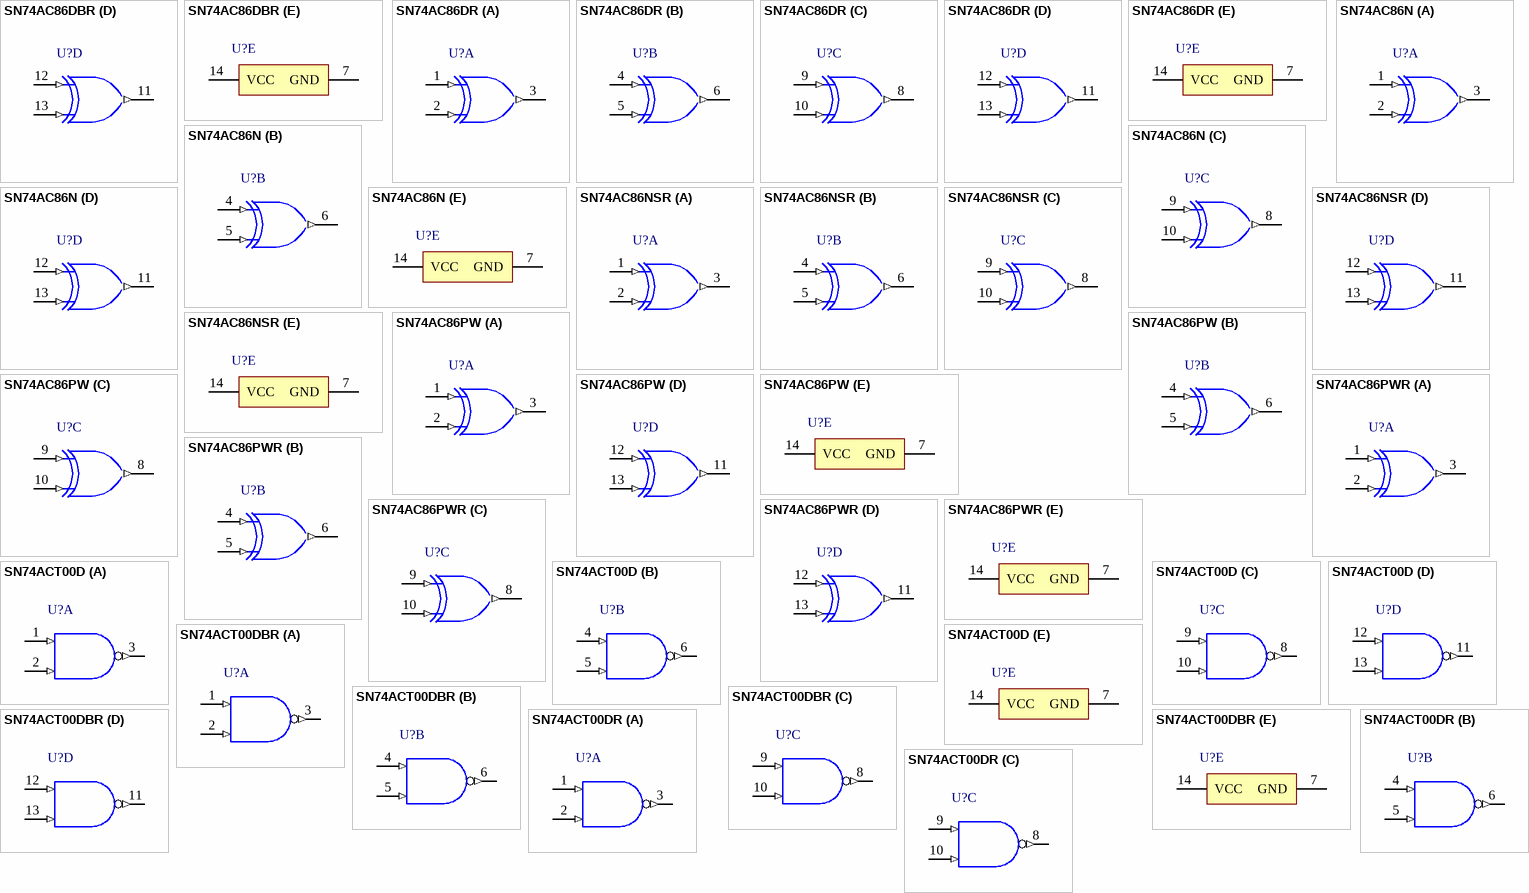
[diagram p82: symbols SN74AC86DBR to SN74ACT00DR]

## SN74AC86DBR
designator U?
Quadruple 2-Input Exclusive-OR Gates, DB0014A, LARGE T&R; Generic Part Number: SN74AC86; Manufacturer: Texas Instruments; PartNumber: SN74AC86DBR; VCC(Min)(V): 2; VCC(Max)(V): 5.5; Output Type: CMOS; ICC @ Nom Voltage(Max)(mA): 0.02; Bits(#): 4; F @ Nom Voltage(Max)(Mhz): 100; Rating: Catalog; Technology Family: AC; Voltage(Nom)(V): 3.3,5; Schmitt Trigger: No; Output Drive (IOL/IOH)(Max)(mA): 24/-24; tpd @ Nom Voltage(Max)(ns): 12.5,9; DatasheetVersion: SCAS533C; PackageReference: DB0014A; Supplier 1: Mouser; Supplier Part Number 1: 595-SN74AC86DBR; Supplier 2: Digi-Key; Supplier Part Number 2: 296-4344-2-ND; Supplier 3: Digi-Key; Supplier Part Number 3: 296-4344-1-ND; Supplier 4: Digi-Key; Supplier Part Number 4: 296-4344-6-ND; Input Type: CMOS; Operating Temperature Range(C): -40 to 85; ComponentLink1Description: Manufacturer URL; ComponentLink1URL: http://www.ti.com/; ComponentLink2Description: Datasheet; ComponentLink2URL: http://www.ti.com/lit/ds/symlink/sn74ac86.pdf
footprint DB0014A_N (SOP, 14-Leads, Body 5.6x6.5mm, Pitch 0.65mm, IPC Medium Density)
footprint DB0014A_M (SOP, 14-Leads, Body 5.6x6.5mm, Pitch 0.65mm, IPC Low Density)
footprint DB0014A_L (SOP, 14-Leads, Body 5.6x6.5mm, Pitch 0.65mm, IPC High Density)
part A pins: 1 1A (in), 2 1B (in), 3 1Y (out)
part B pins: 4 2A (in), 5 2B (in), 6 2Y (out)
part C pins: 8 3Y (out), 9 3A (in), 10 3B (in)
part D pins: 11 4Y (out), 12 4A (in), 13 4B (in)
part E pins: 7 GND (power), 14 VCC (power)

## SN74AC86DR
designator U?
Quadruple 2-Input Exclusive-OR Gates, D0014A, LARGE T&R; Generic Part Number: SN74AC86; Manufacturer: Texas Instruments; PartNumber: SN74AC86DR; VCC(Min)(V): 2; VCC(Max)(V): 5.5; Output Type: CMOS; ICC @ Nom Voltage(Max)(mA): 0.02; Bits(#): 4; F @ Nom Voltage(Max)(Mhz): 100; Rating: Catalog; Technology Family: AC; Voltage(Nom)(V): 3.3,5; Schmitt Trigger: No; Output Drive (IOL/IOH)(Max)(mA): 24/-24; tpd @ Nom Voltage(Max)(ns): 12.5,9; DatasheetVersion: SCAS533C; PackageReference: D0014A; Supplier 1: Mouser; Supplier Part Number 1: 595-SN74AC86DR; Supplier 2: Digi-Key; Supplier Part Number 2: 296-26377-2-ND; Supplier 3: Digi-Key; Supplier Part Number 3: 296-26377-1-ND; Supplier 4: Digi-Key; Supplier Part Number 4: 296-26377-6-ND; Input Type: CMOS; Operating Temperature Range(C): -40 to 85; ComponentLink1Description: Manufacturer URL; ComponentLink1URL: http://www.ti.com/; ComponentLink2Description: Datasheet; ComponentLink2URL: http://www.ti.com/lit/ds/symlink/sn74ac86.pdf
footprint D0014A_N (SOIC, 14-Leads, Body 8.75x4mm, Pitch 1.27mm, IPC Medium Density)
footprint D0014A_M (SOIC, 14-Leads, Body 8.75x4mm, Pitch 1.27mm, IPC Low Density)
footprint D0014A_L (SOIC, 14-Leads, Body 8.75x4mm, Pitch 1.27mm, IPC High Density)
part A pins: 1 1A (in), 2 1B (in), 3 1Y (out)
part B pins: 4 2A (in), 5 2B (in), 6 2Y (out)
part C pins: 8 3Y (out), 9 3A (in), 10 3B (in)
part D pins: 11 4Y (out), 12 4A (in), 13 4B (in)
part E pins: 7 GND (power), 14 VCC (power)

## SN74AC86N
designator U?
Quadruple 2-Input Exclusive-OR Gates, N0014A, TUBE; Generic Part Number: SN74AC86; Manufacturer: Texas Instruments; PartNumber: SN74AC86N; VCC(Min)(V): 2; VCC(Max)(V): 5.5; Output Type: CMOS; ICC @ Nom Voltage(Max)(mA): 0.02; Bits(#): 4; F @ Nom Voltage(Max)(Mhz): 100; Rating: Catalog; Technology Family: AC; Voltage(Nom)(V): 3.3,5; Schmitt Trigger: No; Output Drive (IOL/IOH)(Max)(mA): 24/-24; tpd @ Nom Voltage(Max)(ns): 12.5,9; DatasheetVersion: SCAS533C; PackageReference: N0014A; Supplier 1: Mouser; Supplier Part Number 1: 595-SN74AC86N; Supplier 2: Digi-Key; Supplier Part Number 2: 296-4345-5-ND; Input Type: CMOS; Operating Temperature Range(C): -40 to 85; ComponentLink1Description: Manufacturer URL; ComponentLink1URL: http://www.ti.com/; ComponentLink2Description: Datasheet; ComponentLink2URL: http://www.ti.com/lit/ds/symlink/sn74ac86.pdf
footprint N0014A (DIP, 14-Leads, Body 19.7x6.6mm, Pitch 2.54mm)
part A pins: 1 1A (in), 2 1B (in), 3 1Y (out)
part B pins: 4 2A (in), 5 2B (in), 6 2Y (out)
part C pins: 8 3Y (out), 9 3A (in), 10 3B (in)
part D pins: 11 4Y (out), 12 4A (in), 13 4B (in)
part E pins: 7 GND (power), 14 VCC (power)

## SN74AC86NSR
designator U?
Quadruple 2-Input Exclusive-OR Gates, NS0014A, LARGE T&R; Generic Part Number: SN74AC86; Manufacturer: Texas Instruments; PartNumber: SN74AC86NSR; VCC(Min)(V): 2; VCC(Max)(V): 5.5; Output Type: CMOS; ICC @ Nom Voltage(Max)(mA): 0.02; Bits(#): 4; F @ Nom Voltage(Max)(Mhz): 100; Rating: Catalog; Technology Family: AC; Voltage(Nom)(V): 3.3,5; Schmitt Trigger: No; Output Drive (IOL/IOH)(Max)(mA): 24/-24; tpd @ Nom Voltage(Max)(ns): 12.5,9; DatasheetVersion: SCAS533C; PackageReference: NS0014A; Supplier 1: Mouser; Supplier Part Number 1: 595-SN74AC86NSR; Supplier 2: Digi-Key; Supplier Part Number 2: 296-29992-2-ND; Supplier 3: Digi-Key; Supplier Part Number 3: 296-29992-1-ND; Supplier 4: Digi-Key; Supplier Part Number 4: 296-29992-6-ND; Input Type: CMOS; Operating Temperature Range(C): -40 to 85; ComponentLink1Description: Manufacturer URL; ComponentLink1URL: http://www.ti.com/; ComponentLink2Description: Datasheet; ComponentLink2URL: http://www.ti.com/lit/ds/symlink/sn74ac86.pdf
footprint NS0014A_N (SOIC,14-Leads,Body 10.5x5.6mm,Pitch 1.27mm,IPC Medium Density)
footprint NS0014A_M (SOIC,14-Leads,Body 10.5x5.6mm,Pitch 1.27mm,IPC Low Density)
footprint NS0014A_L (SOIC,14-Leads,Body 10.5x5.6mm,Pitch 0.4mm,IPC High Density)
part A pins: 1 1A (in), 2 1B (in), 3 1Y (out)
part B pins: 4 2A (in), 5 2B (in), 6 2Y (out)
part C pins: 8 3Y (out), 9 3A (in), 10 3B (in)
part D pins: 11 4Y (out), 12 4A (in), 13 4B (in)
part E pins: 7 GND (power), 14 VCC (power)

## SN74AC86PW
designator U?
Quadruple 2-Input Exclusive-OR Gates, PW0014A, TUBE; Generic Part Number: SN74AC86; Manufacturer: Texas Instruments; PartNumber: SN74AC86PW; VCC(Min)(V): 2; VCC(Max)(V): 5.5; Output Type: CMOS; ICC @ Nom Voltage(Max)(mA): 0.02; Bits(#): 4; F @ Nom Voltage(Max)(Mhz): 100; Rating: Catalog; Technology Family: AC; Voltage(Nom)(V): 3.3,5; Schmitt Trigger: No; Output Drive (IOL/IOH)(Max)(mA): 24/-24; tpd @ Nom Voltage(Max)(ns): 12.5,9; DatasheetVersion: SCAS533C; PackageReference: PW0014A; Supplier 1: Mouser; Supplier Part Number 1: 595-SN74AC86PW; Supplier 2: Digi-Key; Supplier Part Number 2: 296-33654-5-ND; Input Type: CMOS; Operating Temperature Range(C): -40 to 85; ComponentLink1Description: Manufacturer URL; ComponentLink1URL: http://www.ti.com/; ComponentLink2Description: Datasheet; ComponentLink2URL: http://www.ti.com/lit/ds/symlink/sn74ac86.pdf
footprint PW0014A_N (SOP, 14-Leads, Body 5.1x4.5mm, Pitch 0.65mm, IPC Medium Density)
footprint PW0014A_M (SOP, 14-Leads, Body 5.1x4.5mm, Pitch 0.65mm, IPC Low Density)
footprint PW0014A_L (SOP, 14-Leads, Body 5.1x4.5mm, Pitch 0.65mm, IPC High Density)
part A pins: 1 1A (in), 2 1B (in), 3 1Y (out)
part B pins: 4 2A (in), 5 2B (in), 6 2Y (out)
part C pins: 8 3Y (out), 9 3A (in), 10 3B (in)
part D pins: 11 4Y (out), 12 4A (in), 13 4B (in)
part E pins: 7 GND (power), 14 VCC (power)

## SN74AC86PWR
designator U?
Quadruple 2-Input Exclusive-OR Gates, PW0014A, LARGE T&R; Generic Part Number: SN74AC86; Manufacturer: Texas Instruments; PartNumber: SN74AC86PWR; VCC(Min)(V): 2; VCC(Max)(V): 5.5; Output Type: CMOS; ICC @ Nom Voltage(Max)(mA): 0.02; Bits(#): 4; F @ Nom Voltage(Max)(Mhz): 100; Rating: Catalog; Technology Family: AC; Voltage(Nom)(V): 3.3,5; Schmitt Trigger: No; Output Drive (IOL/IOH)(Max)(mA): 24/-24; tpd @ Nom Voltage(Max)(ns): 12.5,9; DatasheetVersion: SCAS533C; PackageReference: PW0014A; Supplier 1: Mouser; Supplier Part Number 1: 595-SN74AC86PWR; Supplier 2: Digi-Key; Supplier Part Number 2: 296-4346-2-ND; Supplier 3: Digi-Key; Supplier Part Number 3: 296-4346-1-ND; Supplier 4: Digi-Key; Supplier Part Number 4: 296-4346-6-ND; Input Type: CMOS; Operating Temperature Range(C): -40 to 85; ComponentLink1Description: Manufacturer URL; ComponentLink1URL: http://www.ti.com/; ComponentLink2Description: Datasheet; ComponentLink2URL: http://www.ti.com/lit/ds/symlink/sn74ac86.pdf
footprint PW0014A_N (SOP, 14-Leads, Body 5.1x4.5mm, Pitch 0.65mm, IPC Medium Density)
footprint PW0014A_M (SOP, 14-Leads, Body 5.1x4.5mm, Pitch 0.65mm, IPC Low Density)
footprint PW0014A_L (SOP, 14-Leads, Body 5.1x4.5mm, Pitch 0.65mm, IPC High Density)
part A pins: 1 1A (in), 2 1B (in), 3 1Y (out)
part B pins: 4 2A (in), 5 2B (in), 6 2Y (out)
part C pins: 8 3Y (out), 9 3A (in), 10 3B (in)
part D pins: 11 4Y (out), 12 4A (in), 13 4B (in)
part E pins: 7 GND (power), 14 VCC (power)

## SN74ACT00D
designator U?
Quadruple 2-Input Positive-NAND Gates, D0014A, TUBE; Generic Part Number: SN74ACT00; Manufacturer: Texas Instruments; PartNumber: SN74ACT00D; VCC(Min)(V): 4.5; VCC(Max)(V): 5.5; Output Type: CMOS; ICC @ Nom Voltage(Max)(mA): 0.02; Input Type: TTL; Bits(#): 4; F @ Nom Voltage(Max)(Mhz): 90; Rating: Catalog; Technology Family: ACT; Voltage(Nom)(V): 5; Schmitt Trigger: No; Output Drive (IOL/IOH)(Max)(mA): 24/-24; tpd @ Nom Voltage(Max)(ns): 9.5; DatasheetVersion: SCAS523D; PackageReference: D0014A; Supplier 1: Mouser; Supplier Part Number 1: 595-SN74ACT00D; Supplier 2: Digi-Key; Supplier Part Number 2: 296-1452-5-ND; Operating Temperature Range(C): -40 to 85; Code_JEDEC: MS-012; ComponentLink1Description: Manufacturer URL; ComponentLink1URL: http://www.ti.com/; ComponentLink2Description: Datasheet; ComponentLink2URL: http://www.ti.com/lit/ds/symlink/sn74act00.pdf; ComponentLink3Description: Package Specification; ComponentLink3URL: http://www.ti.com/lit/ml/mpds177g/mpds177g.pdf
footprint D0014A_N (SOIC, 14-Leads, Body 8.75x4mm, Pitch 1.27mm, IPC Medium Density)
footprint D0014A_M (SOIC, 14-Leads, Body 8.75x4mm, Pitch 1.27mm, IPC Low Density)
footprint D0014A_L (SOIC, 14-Leads, Body 8.75x4mm, Pitch 1.27mm, IPC High Density)
part A pins: 1 1A (in) "Gate 1 input", 2 1B (in) "Gate 1 input", 3 1Y (out) "Gate 1 output"
part B pins: 4 2A (in) "Gate 2 input", 5 2B (in) "Gate 2 input", 6 2Y (out) "Gate 2 output"
part C pins: 8 3Y (out) "Gate 3 output", 9 3A (in) "Gate 3 input", 10 3B (in) "Gate 3 input"
part D pins: 11 4Y (out) "Gate 4 output", 12 4A (in) "Gate 4 input", 13 4B (in) "Gate 4 input"
part E pins: 7 GND (power) "Ground Pin", 14 VCC (power) "Power Pin"

## SN74ACT00DBR
designator U?
Quadruple 2-Input Positive-NAND Gates, DB0014A, LARGE T&R; Generic Part Number: SN74ACT00; Manufacturer: Texas Instruments; PartNumber: SN74ACT00DBR; VCC(Min)(V): 4.5; VCC(Max)(V): 5.5; Output Type: CMOS; ICC @ Nom Voltage(Max)(mA): 0.02; Input Type: TTL; Bits(#): 4; F @ Nom Voltage(Max)(Mhz): 90; Rating: Catalog; Technology Family: ACT; Voltage(Nom)(V): 5; Schmitt Trigger: No; Output Drive (IOL/IOH)(Max)(mA): 24/-24; tpd @ Nom Voltage(Max)(ns): 9.5; DatasheetVersion: SCAS523D; PackageReference: DB0014A; Supplier 1: Mouser; Supplier Part Number 1: 595-SN74ACT00DBR; Supplier 2: Digi-Key; Supplier Part Number 2: 296-4347-2-ND; Supplier 3: Digi-Key; Supplier Part Number 3: 296-4347-1-ND; Supplier 4: Digi-Key; Supplier Part Number 4: 296-4347-6-ND; Operating Temperature Range(C): -40 to 85; Code_JEDEC: MO-150; ComponentLink1Description: Manufacturer URL; ComponentLink1URL: http://www.ti.com/; ComponentLink2Description: Datasheet; ComponentLink2URL: http://www.ti.com/lit/ds/symlink/sn74act00.pdf; ComponentLink3Description: Package Specification; ComponentLink3URL: http://www.ti.com/lit/ml/msso002e/msso002e.pdf
footprint DB0014A_N (SOP, 14-Leads, Body 5.6x6.5mm, Pitch 0.65mm, IPC Medium Density)
footprint DB0014A_M (SOP, 14-Leads, Body 5.6x6.5mm, Pitch 0.65mm, IPC Low Density)
footprint DB0014A_L (SOP, 14-Leads, Body 5.6x6.5mm, Pitch 0.65mm, IPC High Density)
part A pins: 1 1A (in) "Gate 1 input", 2 1B (in) "Gate 1 input", 3 1Y (out) "Gate 1 output"
part B pins: 4 2A (in) "Gate 2 input", 5 2B (in) "Gate 2 input", 6 2Y (out) "Gate 2 output"
part C pins: 8 3Y (out) "Gate 3 output", 9 3A (in) "Gate 3 input", 10 3B (in) "Gate 3 input"
part D pins: 11 4Y (out) "Gate 4 output", 12 4A (in) "Gate 4 input", 13 4B (in) "Gate 4 input"
part E pins: 7 GND (power) "Ground Pin", 14 VCC (power) "Power Pin"

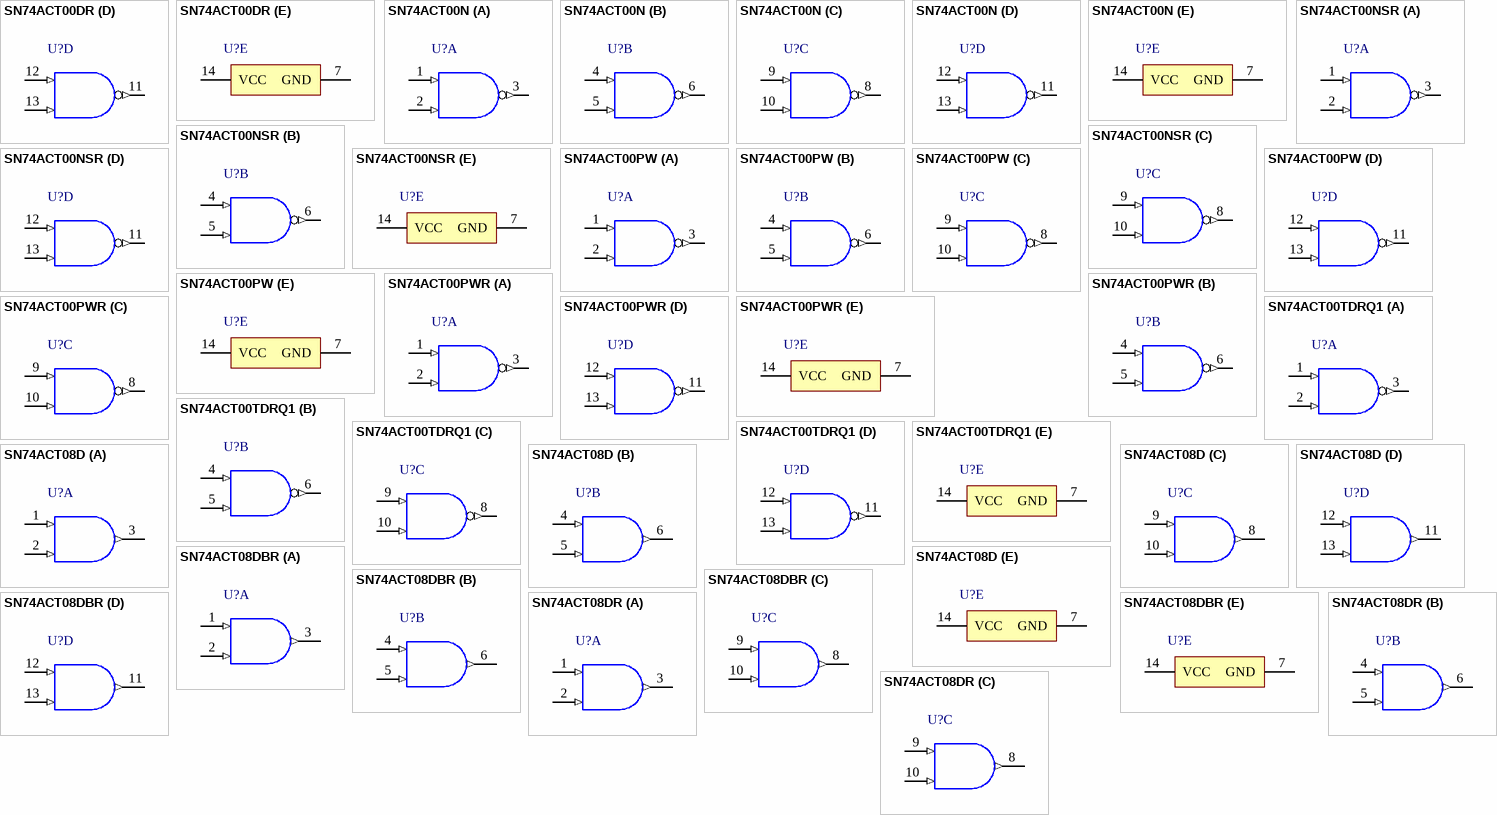
[diagram p83: symbols SN74ACT00DR to SN74ACT08DR]